# Altium footprint library Inductor_THT.PcbLib: 269 footprints (part 1 of 17)
Each footprint in its own frame and in the unit in brackets; x right, y up, seen from the top. Pads: shape width x height; smd on the part's side, far side on the other; paste and mask are expansions set on the pad; w line width, h text height; cw(c..) or ccw(c..) is an arc to the next point about the centre after c.
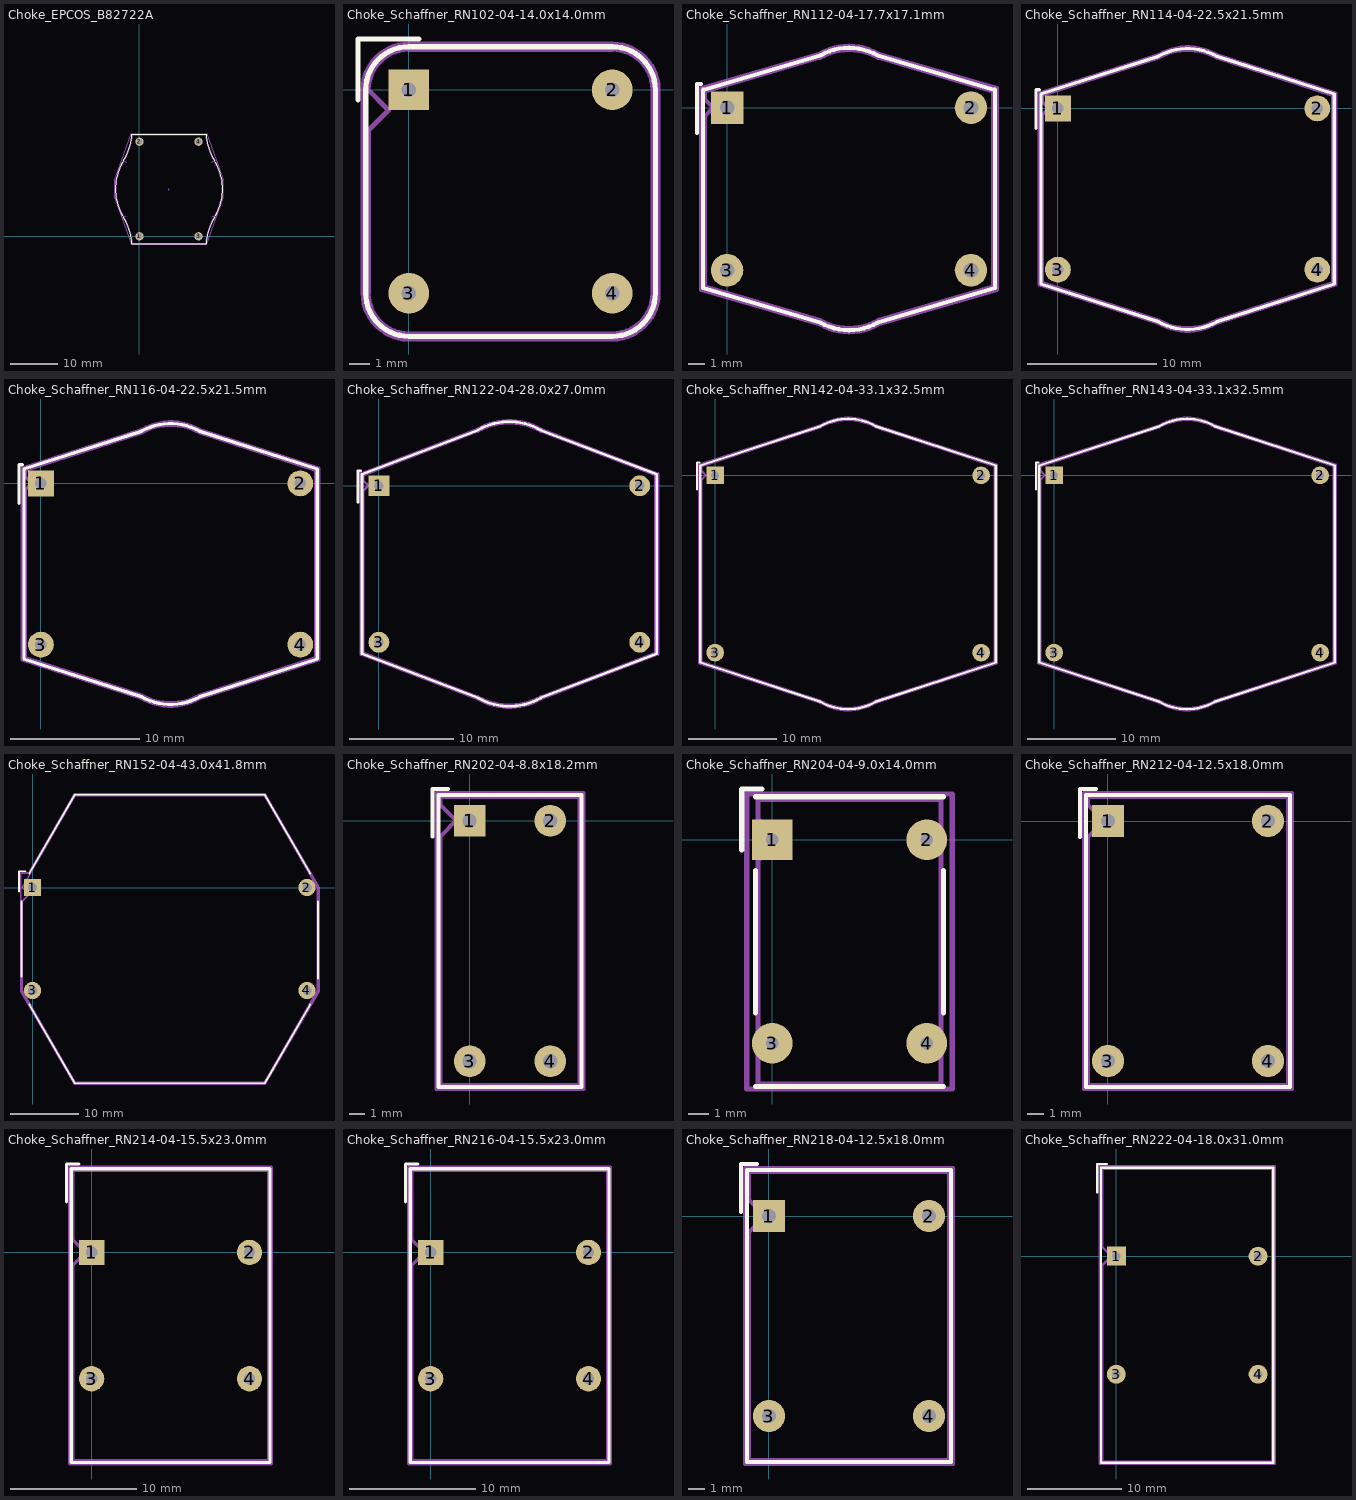
[diagram p0: the footprints below, top view; thin cyan lines are the x and y axes]

## Choke_EPCOS_B82722A [mm]
pads (4):
  round 1.75 hole 1.2: 1(0,0) 2(0,20) 3(12.5,0) 4(12.5,20)
F.SilkS:
  lines w0.254: -3.392,3.993 cw(c6.25,10) -3.392,16.007 ccw(c-13.531,22.323) -1.61,21.56 14.11,21.56 ccw(c26.031,22.323) 15.892,16.007 cw(c6.25,10) 15.892,3.993 ccw(c26.031,-2.323) 14.11,-1.56 -1.61,-1.56 ccw(c-13.531,-2.323) -3.392,3.993
Top Component Center:
  lines w0.127: 6.096,9.906 6.35,9.906 ; 6.223,9.779 6.223,10.033
Top Assembly:
  lines w0.254: -2.74,4.384 -3.291,4.04 ; -2.74,15.616 -3.291,15.96 ; 15.24,4.384 15.791,4.04 ; 15.24,15.616 15.791,15.96 ; -3.291,4.04 cw(c6.25,10) -3.291,15.96 ; -3.291,4.04 cw(c-13.469,-2.318) -1.5,-1.45 14,-1.45 cw(c25.969,-2.318) 15.791,4.04 ; -3.291,15.96 ccw(c-13.469,22.318) -1.5,21.45 14,21.45 ccw(c25.969,22.318) 15.791,15.96 ; 15.791,4.04 ccw(c6.25,10) 15.791,15.96
  text "'.Designator'" at 2.203,7.86 h1
Top Courtyard:
  lines w0.254: -5.25,8 -5.25,12 -1.75,21.7 14.25,21.7 17.75,12 17.75,8 14.25,-1.7 -1.75,-1.7 -5.25,8
Top Designator:
  text ".Designator" at -1.395,10.922 h1.52
3D body "Choke_EPCOS_B82722A.step": height 13.3, standoff -2.5, extent -4.9,-1.35 17.4,21.35

## Choke_Schaffner_RN102-04-14.0x14.0mm [mm]
pads (4):
  rect 2x2 hole 0.7: 1(0,0)
  round 2 hole 0.7: 2(10,0) 3(0,-10) 4(10,-10)
F.SilkS:
  lines w0.254: -2.5,-0.5 -2.5,2.5 0.5,2.5 ; -2.12,-10 ccw(c0,-10) 0,-12.12 10,-12.12 ccw(c10,-10) 12.12,-10 12.12,0 ccw(c10,0) 10,2.12 0,2.12 ccw(c0,0) -2.12,0 -2.12,-10
Top Assembly:
  lines w0.254: -2,-10 ccw(c0,-10) 0,-12 10,-12 ccw(c10,-10) 12,-10 12,0 ccw(c10,0) 10,2 0,2 ccw(c0,0) -2,0 -1,-1 -2,-2 -2,-10
  text "'.Designator'" at 0.953,-5.84 h1
Top Courtyard:
  lines w0.254: -2.25,-10 ccw(c0,-10) 0,-12.25 10,-12.25 ccw(c10,-10) 12.25,-10 12.25,0 ccw(c10,0) 10,2.25 0,2.25 ccw(c0,0) -2.25,0 -2.25,-10
Top Designator:
  text ".Designator" at -2.743,-5.383 h1.52

## Choke_Schaffner_RN112-04-17.7x17.1mm [mm]
pads (4):
  rect 2x2 hole 0.9: 1(0,0)
  round 2 hole 0.9: 2(15,0) 3(0,-10) 4(15,-10)
F.SilkS:
  lines w0.254: -1.85,-1.55 -1.85,1.45 -1.6,1.45 ; 5.714,-13.207 ccw(c7.5,-10.12) 9.28,-13.21 16.47,-11.1 16.47,1.1 9.27,3.21 ; 5.73,-13.21 -1.47,-11.1 -1.47,1.1 5.73,3.21 cw(c7.5,0.12) 9.291,3.198
Top Assembly:
  lines w0.254: 5.73,-13.07 -1.35,-11 -1.35,-0.5 -0.85,0 -1.35,0.5 -1.35,1 5.73,3.07 cw(c7.5,0) 9.274,3.068 ; 5.731,-13.077 ccw(c7.5,-10) 9.28,-13.07 16.35,-11 16.35,1 9.28,3.07
  text "'.Designator'" at 3.453,-5.84 h1
Top Courtyard:
  lines w0.254: 5.714,-13.337 ccw(c7.5,-10.25) 9.28,-13.34 16.6,-11.2 16.6,1.2 9.27,3.34 ; 5.73,-13.34 -1.6,-11.2 -1.6,1.2 5.73,3.34 cw(c7.5,0.25) 9.291,3.328
Top Designator:
  text ".Designator" at -0.243,-5.51 h1.52

## Choke_Schaffner_RN114-04-22.5x21.5mm [mm]
pads (4):
  rect 2x2 hole 0.9: 1(0,0)
  round 2 hole 0.9: 2(20.1,0) 3(0,-12.5) 4(20.1,-12.5)
F.SilkS:
  lines w0.254: -1.7,-1.56 -1.7,1.44 -1.45,1.44 ; 7.78,-16.529 ccw(c10.05,-12.62) 12.3,-16.54 21.42,-13.6 21.42,1.1 12.3,4.04 ; 7.8,-16.54 -1.32,-13.6 -1.32,1.1 7.8,4.04 cw(c10.05,0.12) 12.32,4.029
Top Assembly:
  lines w0.254: 7.798,-16.399 ccw(c10.05,-12.5) 12.3,-16.4 21.3,-13.5 21.3,1 12.3,3.9 ; 7.8,-16.4 -1.2,-13.5 -1.2,-0.5 -0.7,0 -1.2,0.5 -1.2,1 7.8,3.9 cw(c10.05,0) 12.302,3.899
  text "'.Designator'" at 6.003,-7.09 h1
Top Courtyard:
  lines w0.254: 7.78,-16.659 ccw(c10.05,-12.75) 12.3,-16.67 21.55,-13.69 21.55,1.19 12.3,4.17 ; 7.8,-16.67 -1.45,-13.69 -1.45,1.19 7.8,4.17 cw(c10.05,0.25) 12.32,4.159
Top Designator:
  text ".Designator" at 2.307,-6.758 h1.52

## Choke_Schaffner_RN116-04-22.5x21.5mm [mm]
pads (4):
  rect 2x2 hole 0.9: 1(0,0)
  round 2 hole 0.9: 2(20.1,0) 3(0,-12.5) 4(20.1,-12.5)
F.SilkS:
  lines w0.254: -1.7,-1.56 -1.7,1.44 -1.45,1.44 ; 7.78,-16.529 ccw(c10.05,-12.62) 12.3,-16.54 21.42,-13.6 21.42,1.1 12.3,4.04 ; 7.8,-16.54 -1.32,-13.6 -1.32,1.1 7.8,4.04 cw(c10.05,0.12) 12.32,4.029
Top Assembly:
  lines w0.254: 7.798,-16.399 ccw(c10.05,-12.5) 12.3,-16.4 21.3,-13.5 21.3,1 12.3,3.9 ; 7.8,-16.4 -1.2,-13.5 -1.2,-0.5 -0.7,0 -1.2,0.5 -1.2,1 7.8,3.9 cw(c10.05,0) 12.302,3.899
  text "'.Designator'" at 6.003,-7.09 h1
Top Courtyard:
  lines w0.254: 7.78,-16.659 ccw(c10.05,-12.75) 12.3,-16.67 21.55,-13.69 21.55,1.19 12.3,4.17 ; 7.8,-16.67 -1.45,-13.69 -1.45,1.19 7.8,4.17 cw(c10.05,0.25) 12.32,4.159
Top Designator:
  text ".Designator" at 2.307,-6.758 h1.52

## Choke_Schaffner_RN122-04-28.0x27.0mm [mm]
pads (4):
  rect 2x2 hole 0.9: 1(0,0)
  round 2 hole 0.9: 2(25,0) 3(0,-15) 4(25,-15)
F.SilkS:
  lines w0.254: -2,-1.58 -2,1.42 -1.75,1.42 ; 9.479,-20.328 ccw(c12.5,-15.12) 15.5,-20.34 26.62,-16.09 26.62,1.09 15.5,5.34 ; 9.5,-20.34 -1.62,-16.09 -1.62,1.09 9.5,5.34 cw(c12.5,0.12) 15.521,5.328
Top Assembly:
  lines w0.254: 9.497,-20.198 ccw(c12.5,-15) 15.5,-20.2 26.5,-16 26.5,1 15.5,5.2 ; 9.5,-20.2 -1.5,-16 -1.5,-0.5 -1,0 -1.5,0.5 -1.5,1 9.5,5.2 cw(c12.5,0) 15.503,5.198
  text "'.Designator'" at 8.453,-8.34 h1
Top Courtyard:
  lines w0.254: 9.479,-20.458 ccw(c12.5,-15.25) 15.5,-20.47 26.75,-16.17 26.75,1.17 15.5,5.47 ; 9.5,-20.47 -1.75,-16.17 -1.75,1.17 9.5,5.47 cw(c12.5,0.25) 15.521,5.458
Top Designator:
  text ".Designator" at 4.757,-8.008 h1.52

## Choke_Schaffner_RN142-04-33.1x32.5mm [mm]
pads (4):
  rect 2x2 hole 0.9: 1(0,0)
  round 2 hole 0.9: 2(30,0) 3(0,-20) 4(30,-20)
F.SilkS:
  lines w0.254: -2.05,-1.56 -2.05,1.44 -1.8,1.44 ; 11.857,-25.537 ccw(c15,-20.12) 18.12,-25.55 31.67,-21.1 31.67,1.1 18.12,5.55 ; 11.88,-25.55 -1.67,-21.1 -1.67,1.1 11.88,5.55 cw(c15,0.12) 18.143,5.537
Top Assembly:
  lines w0.254: 11.875,-25.407 ccw(c15,-20) 18.12,-25.41 31.55,-21 31.55,1 18.12,5.41 ; 11.88,-25.41 -1.55,-21 -1.55,-0.5 -1.05,0 -1.55,0.5 -1.55,1 11.88,5.41 cw(c15,0) 18.125,5.407
  text "'.Designator'" at 10.953,-10.84 h1
Top Courtyard:
  lines w0.254: 11.857,-25.667 ccw(c15,-20.25) 18.12,-25.68 31.8,-21.19 31.8,1.19 18.12,5.68 ; 11.88,-25.68 -1.8,-21.19 -1.8,1.19 11.88,5.68 cw(c15,0.25) 18.143,5.667
Top Designator:
  text ".Designator" at 7.257,-10.508 h1.52

## Choke_Schaffner_RN143-04-33.1x32.5mm [mm]
pads (4):
  rect 2x2 hole 0.9: 1(0,0)
  round 2 hole 0.9: 2(30,0) 3(0,-20) 4(30,-20)
F.SilkS:
  lines w0.254: -2.05,-1.56 -2.05,1.44 -1.8,1.44 ; 11.857,-25.537 ccw(c15,-20.12) 18.12,-25.55 31.67,-21.1 31.67,1.1 18.12,5.55 ; 11.88,-25.55 -1.67,-21.1 -1.67,1.1 11.88,5.55 cw(c15,0.12) 18.143,5.537
Top Assembly:
  lines w0.254: 11.875,-25.407 ccw(c15,-20) 18.12,-25.41 31.55,-21 31.55,1 18.12,5.41 ; 11.88,-25.41 -1.55,-21 -1.55,-0.5 -1.05,0 -1.55,0.5 -1.55,1 11.88,5.41 cw(c15,0) 18.125,5.407
  text "'.Designator'" at 10.953,-10.84 h1
Top Courtyard:
  lines w0.254: 11.857,-25.667 ccw(c15,-20.25) 18.12,-25.68 31.8,-21.19 31.8,1.19 18.12,5.68 ; 11.88,-25.68 -1.8,-21.19 -1.8,1.19 11.88,5.68 cw(c15,0.25) 18.143,5.667
Top Designator:
  text ".Designator" at 7.257,-10.508 h1.52

## Choke_Schaffner_RN152-04-43.0x41.8mm [mm]
pads (4):
  rect 2.5x2.5 hole 1.3: 1(0,0)
  round 2.5 hole 1.3: 2(40,0) 3(0,-15) 4(40,-15)
F.SilkS:
  lines w0.254: -1.97,-0.62 -1.97,2.38 -0.97,2.38 ; -1.62,-13 -1.62,-2 ; -0.45,-17.06 6.18,-28.52 33.83,-28.52 40.45,-17.06 ; -0.45,2.06 6.17,13.52 33.82,13.52 40.45,2.06 ; 41.62,-13.25 41.62,-2
Top Assembly:
  lines w0.254: -1.5,-15 6.24,-28.4 33.76,-28.4 41.5,-15 41.5,0 33.76,13.4 6.24,13.4 -1.5,0 -0.5,-1 -1.5,-2 -1.5,-15
  text "'.Designator'" at 15.953,-8.34 h1
Top Courtyard:
  lines w0.254: -1.72,-15.12 6.11,-28.65 33.91,-28.65 41.75,-15.12 41.75,0 33.89,13.65 6.09,13.65 -0.56,2.12 -1.72,2.12 -1.72,-15.12
Top Designator:
  text ".Designator" at 12.272,-8.008 h1.52

## Choke_Schaffner_RN202-04-8.8x18.2mm [mm]
pads (4):
  rect 2x2 hole 0.9: 1(0,0)
  round 2 hole 0.9: 2(5.1,0) 3(0,-15.2) 4(5.1,-15.2)
F.SilkS:
  lines w0.254: -2.35,-1 -2.35,2 -1.35,2 ; -1.97,-16.82 7.07,-16.82 7.07,1.62 -1.97,1.62 -1.97,-16.82
Top Assembly:
  lines w0.254: -1.85,-16.7 6.95,-16.7 6.95,1.5 -1.85,1.5 -1.85,1 -0.85,0 -1.85,-1 -1.85,-16.7
  text "'.Designator'" at -1.497,-8.44 h1
Top Courtyard:
  lines w0.254: -2.1,-16.95 7.2,-16.95 7.2,1.75 -2.1,1.75 -2.1,-16.95
Top Designator:
  text ".Designator" at -5.193,-7.983 h1.52

## Choke_Schaffner_RN204-04-9.0x14.0mm [mm]
pads (4):
  rect 2x2 hole 0.6: 1(0,0)
  round 2 hole 0.6: 2(7.6,0) 3(0,-10) 4(7.6,-10)
F.SilkS:
  lines w0.254: -1.5,-0.5 -1.5,2.5 -0.5,2.5 ; -0.82,-12.12 8.42,-12.12 ; -0.82,-8.5 -0.82,-1.5 ; -0.82,2.12 8.42,2.12 ; 8.42,-8.5 8.42,-1.5
Top Assembly:
  lines w0.254: -0.7,-12 8.3,-12 8.3,2 -0.7,2 -0.7,1 0.3,0 -0.7,-1 -0.7,-12
  text "'.Designator'" at -0.247,-5.84 h1
Top Courtyard:
  lines w0.254: -1.25,-12.25 8.85,-12.25 8.85,2.25 -1.25,2.25 -1.25,-12.25
Top Designator:
  text ".Designator" at -3.943,-5.383 h1.52

## Choke_Schaffner_RN212-04-12.5x18.0mm [mm]
pads (4):
  rect 2x2 hole 0.9: 1(0,0)
  round 2 hole 0.9: 2(10,0) 3(0,-15) 4(10,-15)
F.SilkS:
  lines w0.254: -1.75,-1 -1.75,2 -0.75,2 ; -1.37,-16.62 11.37,-16.62 11.37,1.62 -1.37,1.62 -1.37,-16.62
Top Assembly:
  lines w0.254: -1.25,-16.5 11.25,-16.5 11.25,1.5 -1.25,1.5 -1.25,1 -0.25,0 -1.25,-1 -1.25,-16.5
  text "'.Designator'" at 0.953,-8.34 h1
Top Courtyard:
  lines w0.254: -1.5,-16.75 11.5,-16.75 11.5,1.75 -1.5,1.75 -1.5,-16.75
Top Designator:
  text ".Designator" at -2.743,-7.883 h1.52

## Choke_Schaffner_RN214-04-15.5x23.0mm [mm]
pads (4):
  rect 2x2 hole 0.9: 1(0,0)
  round 2 hole 0.9: 2(12.5,0) 3(0,-10) 4(12.5,-10)
F.SilkS:
  lines w0.254: -2,4 -2,7 -1,7 ; -1.62,-16.62 14.12,-16.62 14.12,6.62 -1.62,6.62 -1.62,-16.62
Top Assembly:
  lines w0.254: -1.5,-16.5 14,-16.5 14,6.5 -1.5,6.5 -1.5,1 -0.5,0 -1.5,-1 -1.5,-16.5
  text "'.Designator'" at 2.203,-5.84 h1
Top Courtyard:
  lines w0.254: -1.75,-16.75 14.25,-16.75 14.25,6.75 -1.75,6.75 -1.75,-16.75
Top Designator:
  text ".Designator" at -1.493,-5.383 h1.52

## Choke_Schaffner_RN216-04-15.5x23.0mm [mm]
pads (4):
  rect 2x2 hole 0.9: 1(0,0)
  round 2 hole 0.9: 2(12.5,0) 3(0,-10) 4(12.5,-10)
F.SilkS:
  lines w0.254: -2,4 -2,7 -1,7 ; -1.62,-16.62 14.12,-16.62 14.12,6.62 -1.62,6.62 -1.62,-16.62
Top Assembly:
  lines w0.254: -1.5,-16.5 14,-16.5 14,6.5 -1.5,6.5 -1.5,1 -0.5,0 -1.5,-1 -1.5,-16.5
  text "'.Designator'" at 2.203,-5.84 h1
Top Courtyard:
  lines w0.254: -1.75,-16.75 14.25,-16.75 14.25,6.75 -1.75,6.75 -1.75,-16.75
Top Designator:
  text ".Designator" at -1.493,-5.383 h1.52

## Choke_Schaffner_RN218-04-12.5x18.0mm [mm]
pads (4):
  rect 2x2 hole 0.9: 1(0,0)
  round 2 hole 0.9: 2(10,0) 3(0,-12.5) 4(10,-12.5)
F.SilkS:
  lines w0.254: -1.75,0.25 -1.75,3.25 -0.75,3.25 ; -1.37,-15.37 11.37,-15.37 11.37,2.87 -1.37,2.87 -1.37,-15.37
Top Assembly:
  lines w0.254: -1.25,-15.25 11.25,-15.25 11.25,2.75 -1.25,2.75 -1.25,1 -0.25,0 -1.25,-1 -1.25,-15.25
  text "'.Designator'" at 0.953,-7.09 h1
Top Courtyard:
  lines w0.254: -1.5,-15.5 11.5,-15.5 11.5,3 -1.5,3 -1.5,-15.5
Top Designator:
  text ".Designator" at -2.743,-6.633 h1.52

## Choke_Schaffner_RN222-04-18.0x31.0mm [mm]
pads (4):
  rect 2x2 hole 0.9: 1(0,0)
  round 2 hole 0.9: 2(15,0) 3(0,-12.5) 4(15,-12.5)
F.SilkS:
  lines w0.254: -2,6.75 -2,9.75 -1,9.75 ; -1.62,-21.87 16.62,-21.87 16.62,9.37 -1.62,9.37 -1.62,-21.87
Top Assembly:
  lines w0.254: -1.5,-21.75 16.5,-21.75 16.5,9.25 -1.5,9.25 -1.5,1 -0.5,0 -1.5,-1 -1.5,-21.75
  text "'.Designator'" at 3.453,-7.09 h1
Top Courtyard:
  lines w0.254: -1.75,-22 16.75,-22 16.75,9.5 -1.75,9.5 -1.75,-22
Top Designator:
  text ".Designator" at -0.243,-6.633 h1.52